# Altium schematic symbol library DC-050-T20.SchLib: 1 symbol
Pins are listed as number, name and electrical type; pins without a type are passive.

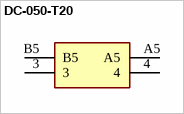
[diagram p0: symbol DC-050-T20]

## DC-050-T20
designator J?  (value not drawn)
Connector; Manufacturer_Name: SOFNG; Geometry.Height: 11mm; Manufacturer_Part_Number: DC-050-T20; Mouser Part Number: *; Mouser Price/Stock: *; Arrow Part Number: *; Arrow Price/Stock: *; Datasheet Link: https://datasheet.lcsc.com/szlcsc/SOFNG-DC-050-T20_C114916.pdf
footprint DC050T20
pins: 3, 4, A5, B5